# EAGLE library part ADUC7* (library analog-devices)
Precision Analog Microcontroller 12-bit Analog I/O, ARM7TDMI® MCU ADuC7026/27 Source: Source: http://www.analog.com/UploadedFiles/Data_Sheets/288945048AD7C7019_20_1_2_4_5_6_7_0.pdf
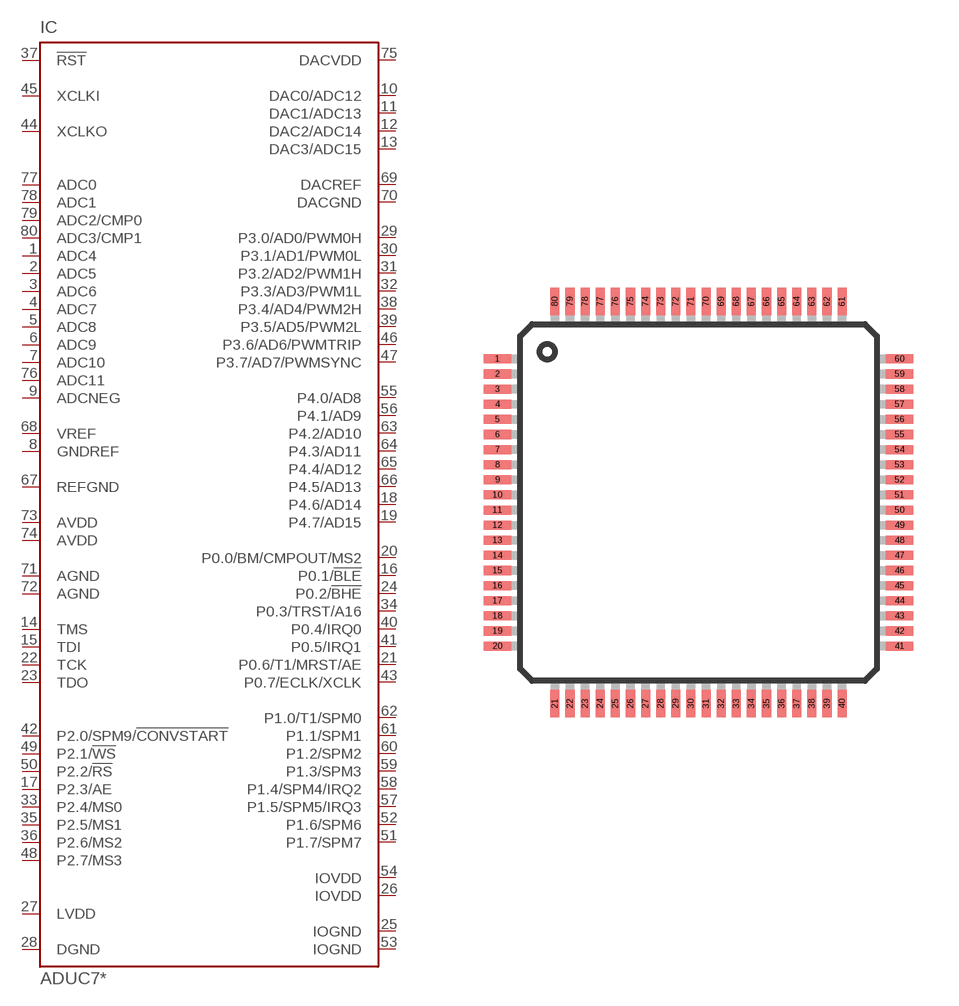
[diagram p39: symbol with the pads of LQFP_ST-80-1; footprint LQFP_ST-80-1]

Designator prefix IC

## ADUC7026BSTZ62 (MPN: ADUC7026BSTZ62; OC_FARNELL: unknown; OC_NEWARK: 12M8346), ADUC7026BSTZ62-RL (OC_FARNELL: unknown; OC_NEWARK: unknown), ADUC7026BSTZ62I (MPN: ADUC7026BSTZ62I-RL; OC_FARNELL: 1162647; OC_NEWARK: 12M8348), ADUC7026BSTZ62I-RL (OC_FARNELL: unknown; OC_NEWARK: unknown), ADUC7027BSTZ62 (MPN: ADUC7027BSTZ62; OC_FARNELL: 1162648; OC_NEWARK: 19M0746), ADUC7027BSTZ62-RL (MPN: ADUC7027BSTZ62-RL; OC_FARNELL: unknown; OC_NEWARK: 12M8350)  [LQFP_ST-80-1]
1  ADC4  in
2  ADC5  in
3  ADC6  in
4  ADC7  in
5  ADC8  in
6  ADC9  in
7  ADC10  in
8  GNDREF  in
9  ADCNEG  in
10  DAC0/ADC12  in
11  DAC1/ADC13  in
12  DAC2/ADC14  in
13  DAC3/ADC15  in
14  TMS  in
15  TDI  in
16  P0.1/!BLE
17  P2.3/AE
18  P4.6/AD14
19  P4.7/AD15
20  P0.0/BM/CMPOUT/MS2
21  P0.6/T1/MRST/AE
22  TCK  in
23  TDO  out
24  P0.2/!BHE
25  IOGND  pwr
26  IOVDD  pwr
27  LVDD  out
28  DGND  pwr
29  P3.0/AD0/PWM0H  out
30  P3.1/AD1/PWM0L  out
31  P3.2/AD2/PWM1H  out
32  P3.3/AD3/PWM1L  out
33  P2.4/MS0
34  P0.3/TRST/A16
35  P2.5/MS1
36  P2.6/MS2
37  !RST  in
38  P3.4/AD4/PWM2H  out
39  P3.5/AD5/PWM2L  out
40  P0.4/IRQ0
41  P0.5/IRQ1
42  P2.0/SPM9/!CONVSTART
43  P0.7/ECLK/XCLK
44  XCLKO  out
45  XCLKI  in
46  P3.6/AD6/PWMTRIP  out
47  P3.7/AD7/PWMSYNC  out
48  P2.7/MS3
49  P2.1/!WS
50  P2.2/!RS
51  P1.7/SPM7
52  P1.6/SPM6
53  IOGND  pwr
54  IOVDD  pwr
55  P4.0/AD8
56  P4.1/AD9
57  P1.5/SPM5/IRQ3
58  P1.4/SPM4/IRQ2
59  P1.3/SPM3
60  P1.2/SPM2
61  P1.1/SPM1
62  P1.0/T1/SPM0
63  P4.2/AD10
64  P4.3/AD11
65  P4.4/AD12
66  P4.5/AD13
67  REFGND  in
68  VREF  pas
69  DACREF  in
70  DACGND  pwr
71  AGND  pwr
72  AGND  pwr
73  AVDD  pwr
74  AVDD  pwr
75  DACVDD  pwr
76  ADC11  in
77  ADC0  in
78  ADC1  in
79  ADC2/CMP0  in
80  ADC3/CMP1  in

## Footprint LQFP_ST-80-1 (pad centres in mm)
80-Lead Low Profile Quad Flat Package (ST-80-1) COMPLIANT TO JEDEC STANDARDS MS-026-BDD Source: http://www.analog.com/UploadedFiles/Data_Sheets/288945048AD7C7019_20_1_2_4_5_6_7_0.pdf
smd 0.9 x 0.3: 1 -6.65,4.75; 2 -6.65,4.25; 3 -6.65,3.75; 4 -6.65,3.25; 5 -6.65,2.75; 6 -6.65,2.25; 7 -6.65,1.75; 8 -6.65,1.25; 9 -6.65,0.75; 10 -6.65,0.25; 11 -6.65,-0.25; 12 -6.65,-0.75; 13 -6.65,-1.25; 14 -6.65,-1.75; 15 -6.65,-2.25; 16 -6.65,-2.75; 17 -6.65,-3.25; 18 -6.65,-3.75; 19 -6.65,-4.25; 20 -6.65,-4.75; 41 6.65,-4.75; 42 6.65,-4.25; 43 6.65,-3.75; 44 6.65,-3.25; 45 6.65,-2.75; 46 6.65,-2.25; 47 6.65,-1.75; 48 6.65,-1.25; 49 6.65,-0.75; 50 6.65,-0.25; 51 6.65,0.25; 52 6.65,0.75; 53 6.65,1.25; 54 6.65,1.75; 55 6.65,2.25; 56 6.65,2.75; 57 6.65,3.25; 58 6.65,3.75; 59 6.65,4.25; 60 6.65,4.75
smd 0.3 x 0.9: 21 -4.75,-6.65; 22 -4.25,-6.65; 23 -3.75,-6.65; 24 -3.25,-6.65; 25 -2.75,-6.65; 26 -2.25,-6.65; 27 -1.75,-6.65; 28 -1.25,-6.65; 29 -0.75,-6.65; 30 -0.25,-6.65; 31 0.25,-6.65; 32 0.75,-6.65; 33 1.25,-6.65; 34 1.75,-6.65; 35 2.25,-6.65; 36 2.75,-6.65; 37 3.25,-6.65; 38 3.75,-6.65; 39 4.25,-6.65; 40 4.75,-6.65; 61 4.75,6.65; 62 4.25,6.65; 63 3.75,6.65; 64 3.25,6.65; 65 2.75,6.65; 66 2.25,6.65; 67 1.75,6.65; 68 1.25,6.65; 69 0.75,6.65; 70 0.25,6.65; 71 -0.25,6.65; 72 -0.75,6.65; 73 -1.25,6.65; 74 -1.75,6.65; 75 -2.25,6.65; 76 -2.75,6.65; 77 -3.25,6.65; 78 -3.75,6.65; 79 -4.25,6.65; 80 -4.75,6.65